# Altium footprint library PCB - LEADED - SOIC-8_N.PCBLIB: 1 footprints
Each footprint in its own frame and in the unit in brackets; x right, y up, seen from the top. Pads: shape width x height; smd on the part's side, far side on the other; paste and mask are expansions set on the pad; w line width, h text height; cw(c..) or ccw(c..) is an arc to the next point about the centre after c.
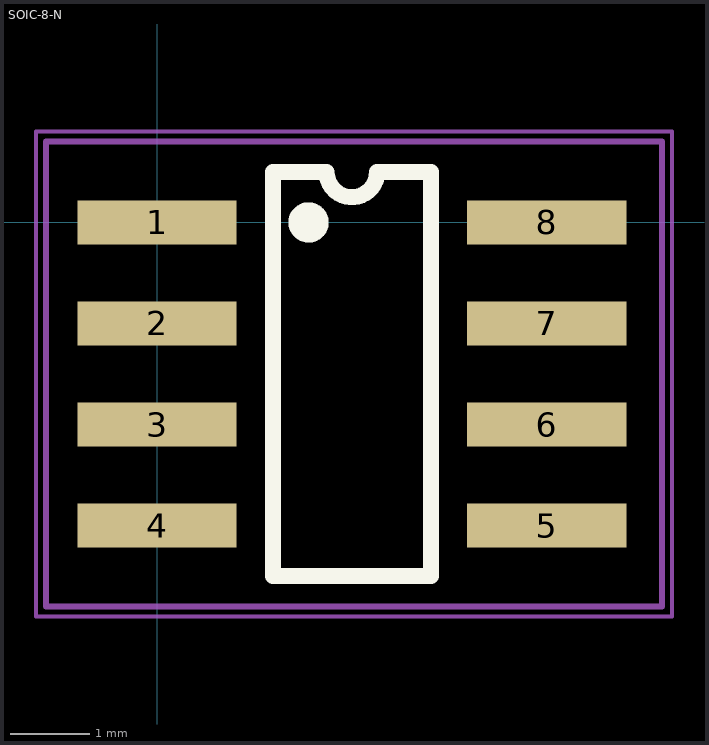
[diagram p0: the footprint, top view; thin cyan lines are the x and y axes]

## SOIC-8-N [mm] "SMD Small Outline IC 8 pin Narrow"
height 10.3
pads (8):
  rect 2x0.55 smd: 1(0,0) 2(0,-1.27) 3(0,-2.54) 4(0,-3.81) 5(4.9,-3.81) 6(4.9,-2.54) 7(4.9,-1.27) 8(4.9,0)
Top Overlay:
  circle w0.254: c1.905,0 r0.127
  lines w0.203: 1.457,-4.445 1.457,0.635 2.133,0.635 ccw(c2.45,0.635) 2.768,0.635 3.443,0.635 3.443,-4.445 1.457,-4.445
Top Assembly:
  lines w0.076: -1.397,-4.826 -1.397,1.016 6.35,1.016 6.35,-4.826 -1.397,-4.826
  text ".Designator" at -0.889,1.524 h1.52
Top Courtyard (Mech7):
  lines w0.051: -1.524,-4.953 6.477,-4.953 6.477,1.143 -1.524,1.143 -1.524,-4.953
3D body "SOIC-8 Narrow.STEP": height 1.7, standoff 0, extent -0.635,-4.318 5.563,0.508